# EAGLE library part 74HC151 (library IC)
8:1 Mux Digital
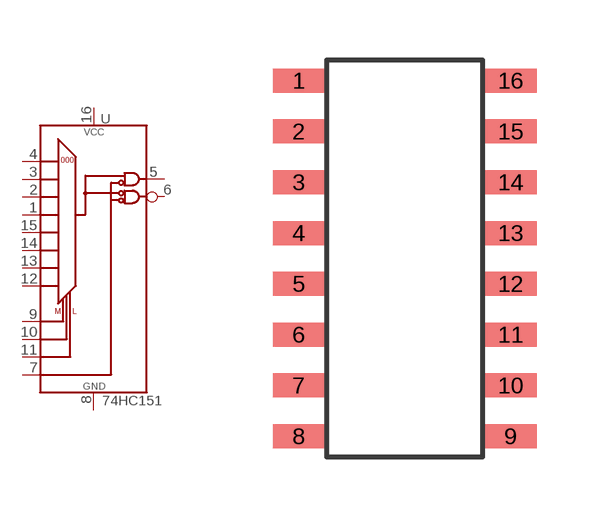
[diagram p17: symbol with the pads of SOIC-3.9MM-16; footprint SOIC-3.9MM-16]

Designator prefix U

## 74HC151 (MPN: 74HC151D,653)  [SOIC-3.9MM-16]
1  I3
2  I2
3  I1
4  I0
5  Y
6  !Y
7  !E
8  GND
9  S2
10  S1
11  S0
12  I7
13  I6
14  I5
15  I4
16  VCC

## Footprint SOIC-3.9MM-16 (pad centres in mm)
smd 1.3 x 0.6: 1 -2.65,4.445; 2 -2.65,3.175; 3 -2.65,1.905; 4 -2.65,0.635; 5 -2.65,-0.635; 6 -2.65,-1.905; 7 -2.65,-3.175; 8 -2.65,-4.445; 9 2.65,-4.445; 10 2.65,-3.175; 11 2.65,-1.905; 12 2.65,-0.635; 13 2.65,0.635; 14 2.65,1.905; 15 2.65,3.175; 16 2.65,4.445